# EAGLE library part CH32V305FBP6 (library WCH_32V)
CH32V305FBP6
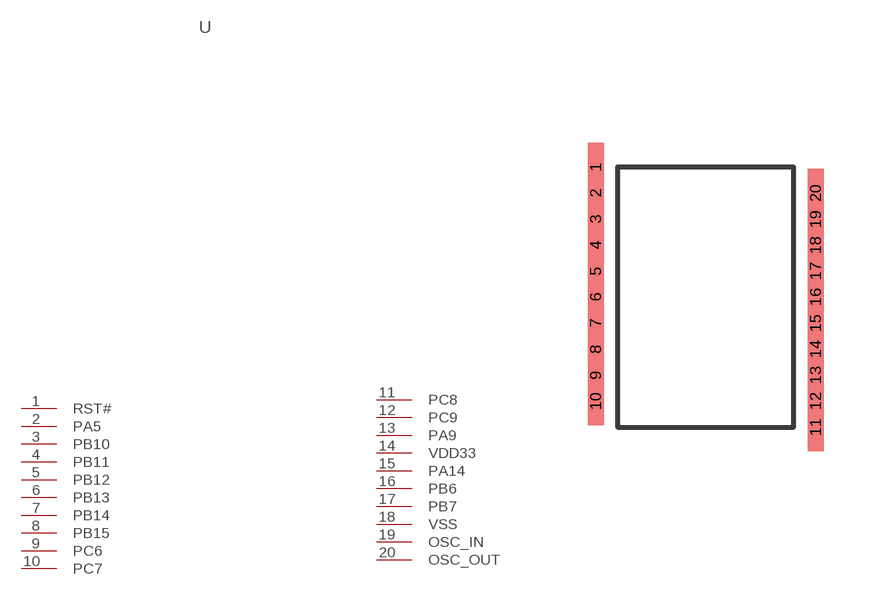
[diagram p2: symbol with the pads of TSSOP20; footprint TSSOP20]

Designator prefix -

## CH32V305FBP6  [TSSOP20]
1  RST#  in
2  PA5
3  PB10
4  PB11
5  PB12
6  PB13
7  PB14
8  PB15
9  PC6
10  PC7
11  PC8
12  PC9
13  PA9
14  VDD33  pwr
15  PA14
16  PB6
17  PB7
18  VSS  pwr
19  OSC_IN  in
20  OSC_OUT  out

## Footprint TSSOP20 (pad centres in mm)
TSSOP20 0.65mm pitch
smd 0.4 x 1.2: 1 -2.75,3.25; 2 -2.75,2.6; 3 -2.75,1.95; 4 -2.75,1.3; 5 -2.75,0.65; 6 -2.75,0; 7 -2.75,-0.65; 8 -2.75,-1.3; 9 -2.75,-1.95; 10 -2.75,-2.6; 11 2.75,-3.25; 12 2.75,-2.6; 13 2.75,-1.95; 14 2.75,-1.3; 15 2.75,-0.65; 16 2.75,0; 17 2.75,0.65; 18 2.75,1.3; 19 2.75,1.95; 20 2.75,2.6